# EAGLE library part LDO40L (library TRN_Open_Servo)
LDO40L Description The LDO40L is a 400 mA LDO regulator, designed for being used in severe automotive environments. Low quiescent current makes it suitable for applications permanently connected to battery. This feature is especially critical when electronic modules remain in active mode when ignition is off. The LDO40L embeds protection functions, such as: current limit and thermal-shutdown. The extended input voltage range, low drop voltage and low quiescent current features make it suitable also for low power industrial and consumer applications. Applications Automotive Applications Body control modules Instruments and clusters Automotive LED lighting Features Low quiescent current: typ. 45 μA at no load Wide input voltage operating range up to 38 V Low startup voltage: 3.5 V Output current up to 400mA Output voltage options: Adj from 2.5 V and fixed, 3.0, 3.3, 5.0 and 8.5 V Output voltage accuracy: ± 1% typ. @ 25 °C ± 3% (including line, load and temperature variation) Ultra low dropout: 36mV @ 100mA load current 140mV @ 400mA load current High PSRR: 70db @ 1kHz Very low noise: 20 μVRMS / VOUT Protection features: current limitation, thermal shutdown -40 °C to +125 °C operating temperature range Package: DFN6 (3x3) (wettable flanks) AEC-Q100 qualified (grade 1)
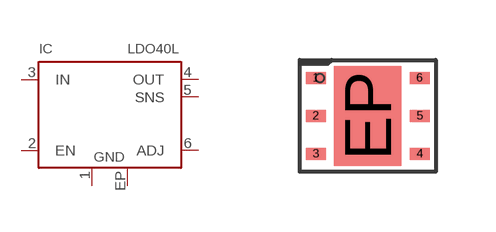
[diagram p3: symbol with the pads of DFN6-3X3; footprint DFN6-3X3]

Designator prefix IC

## LDO40L-ADJ  [DFN6-3X3]
1  GND
2  EN
3  IN
4  OUT
5  SNS
6  ADJ
EP  GND

## Footprint DFN6-3X3 (pad centres in mm)
DFN-6 3mm x 3mm ST Voltage Regulator Package
smd 0.5 x 0.3: 1 -1.3,0.95; 2 -1.3,0; 3 -1.3,-0.95; 4 1.3,-0.95; 5 1.3,0; 6 1.3,0.95
smd 1.68 x 2.5: EP 0,0